# EAGLE library part 1486УД3 (library operational-amplifier)
АЕЯР.431130.784 ТУ 1486УД3ТВК, 1486УД3Т1ВК - счетверенный ОУ общего применения, предназначенный для использования в радиоэлектронной аппаратуре специального назначения. Отличительные особенности: - малые габариты и вес; - защита выходов от перегрузки; - 4 канала аналогичных по функционированию 140УД7; - выходной каскад класса АВ – отсутствуют переходные искажения. Микросхема в исполненении ТВК покрыта золотом, в исполнении Т1ВК - никелем. Производитель: АО "Восход"-КРЛЗ г. Калуга.
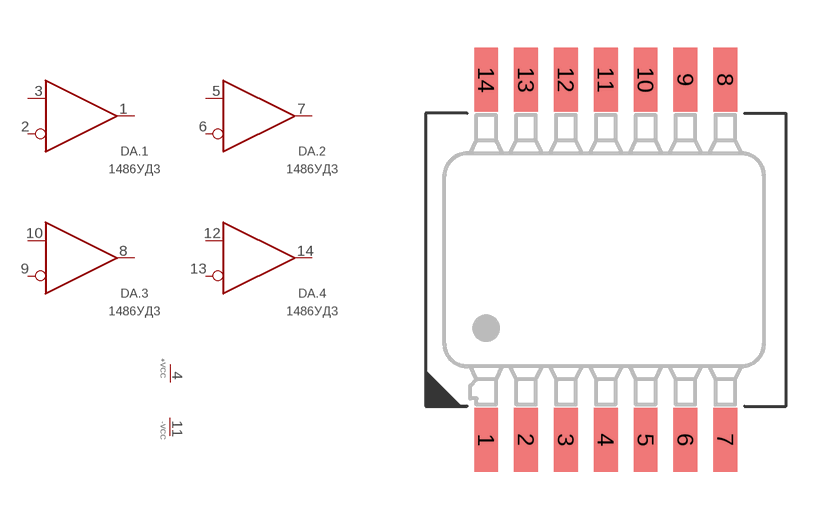
[diagram p4: symbol with the pads of 401.14-5; footprint 401.14-5]

Designator prefix DA; gates .1=OPERATIONAL-AMPLIFIER-SIMPLE .2=OPERATIONAL-AMPLIFIER-SIMPLE .3=OPERATIONAL-AMPLIFIER-SIMPLE .4=OPERATIONAL-AMPLIFIER-SIMPLE G$5=POWER_2

## 1486УД3ТВК  [401.14-5]
1  .1:OUT  out
2  .1:!IN  in
3  .1:IN  in
4  G$5:+VCC  pwr
5  .2:IN  in
6  .2:!IN  in
7  .2:OUT  out
8  .3:OUT  out
9  .3:!IN  in
10  .3:IN  in
11  G$5:-VCC  pwr
12  .4:IN  in
13  .4:!IN  in
14  .4:OUT  out

## 1486УД3Т1ВК  [401.14-5]
Pads as for 401.14-5

## Footprint 401.14-5 (pad centres in mm)
smd 0.75 x 2: 1 -3.7,-5.65; 2 -2.45,-5.65; 3 -1.2,-5.65; 4 0.05,-5.65; 5 1.3,-5.65; 6 2.55,-5.65; 7 3.8,-5.65; 8 3.8,5.65; 9 2.55,5.65; 10 1.3,5.65; 11 0.05,5.65; 12 -1.2,5.65; 13 -2.45,5.65; 14 -3.7,5.65